# EAGLE library part GE865 (library telit-modules)
Telit GE865-QUAD
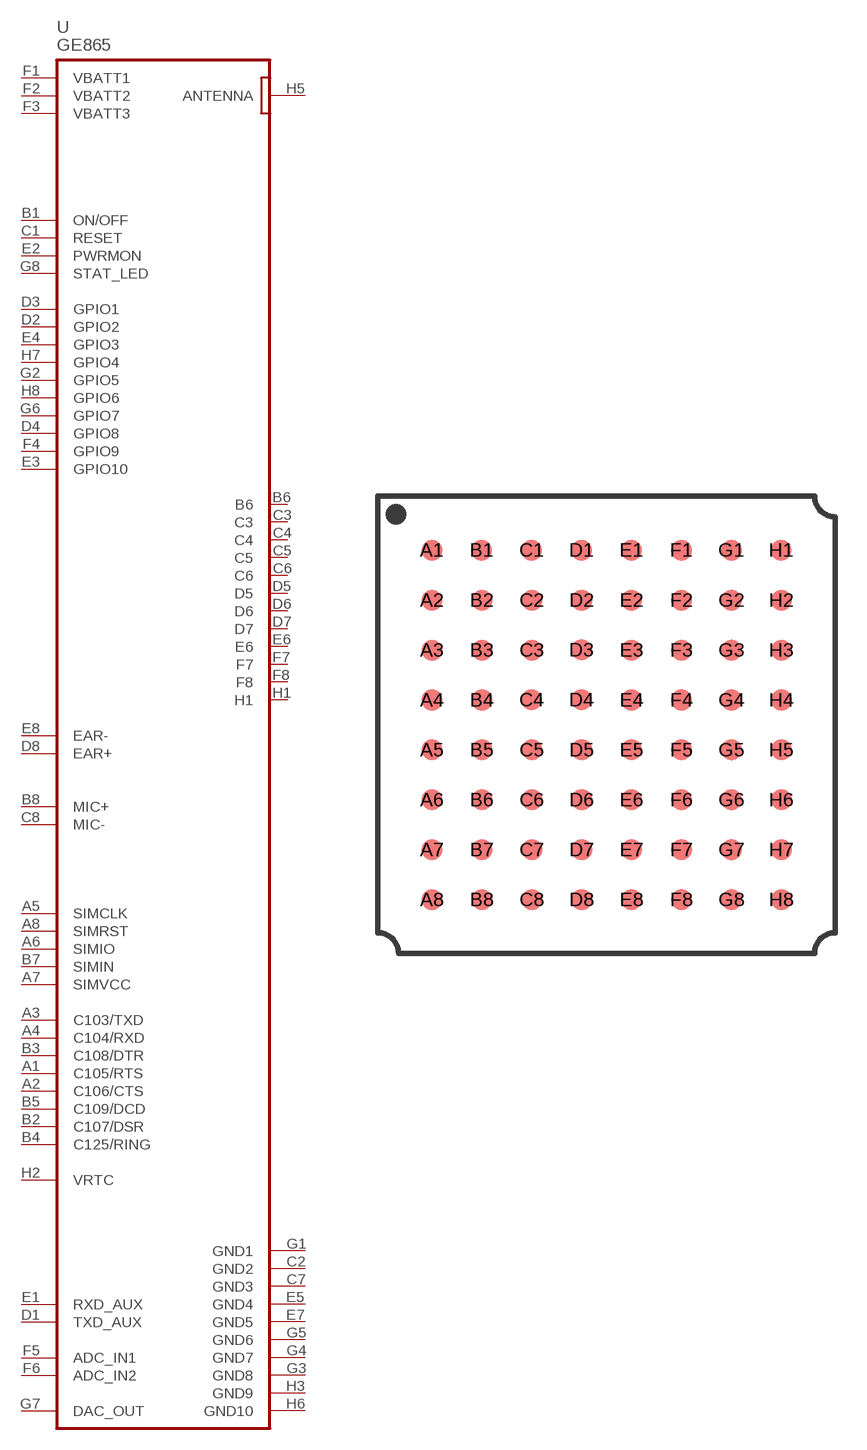
[diagram p6: symbol with the pads of GE865; footprint GE865]

Designator prefix -

## GE865  [GE865]
A1  C105/RTS  in
A2  C106/CTS  out
A3  C103/TXD  in
A4  C104/RXD  out
A5  SIMCLK  out
A6  SIMIO
A7  SIMVCC  pas
A8  SIMRST  out
B1  ON/OFF  in
B2  C107/DSR  out
B3  C108/DTR  in
B4  C125/RING  out
B5  C109/DCD  out
B6  B6  pas
B7  SIMIN  in
B8  MIC+  pas
C1  RESET  in
C2  GND2  pwr
C3  C3  pas
C4  C4  pas
C5  C5  pas
C6  C6  pas
C7  GND3  pwr
C8  MIC-  pas
D1  TXD_AUX  pas
D2  GPIO2
D3  GPIO1
D4  GPIO8
D5  D5  pas
D6  D6  pas
D7  D7  pas
D8  EAR+  pas
E1  RXD_AUX  pas
E2  PWRMON
E3  GPIO10
E4  GPIO3
E5  GND4  pwr
E6  E6  pas
E7  GND5  pwr
E8  EAR-  pas
F1  VBATT1  pwr
F2  VBATT2  pwr
F3  VBATT3  pwr
F4  GPIO9
F5  ADC_IN1  in
F6  ADC_IN2  in
F7  F7  pas
F8  F8  pas
G1  GND1  pwr
G2  GPIO5
G3  GND8  pwr
G4  GND7  pwr
G5  GND6  pwr
G6  GPIO7
G7  DAC_OUT  out
G8  STAT_LED  out
H1  H1  pas
H2  VRTC  pas
H3  GND9  pwr
H5  ANTENNA  in
H6  GND10  pwr
H7  GPIO4
H8  GPIO6

## Footprint GE865 (pad centres in mm)
smd 1 x 1: A1 -8.4,8.4; A2 -8.39,5.99; A3 -8.39,3.59; A4 -8.39,1.19; A5 -8.39,-1.21; A6 -8.39,-3.61; A7 -8.39,-6.01; A8 -8.39,-8.41; B1 -6,8.4; B2 -5.99,5.99; B3 -5.99,3.59; B4 -5.99,1.19; B5 -5.99,-1.21; B6 -5.99,-3.61; B7 -5.99,-6.01; B8 -5.99,-8.41; C1 -3.6,8.4; C2 -3.59,5.99; C3 -3.59,3.59; C4 -3.6,1.2; C5 -3.59,-1.21; C6 -3.59,-3.61; C7 -3.59,-6.01; C8 -3.59,-8.41; D1 -1.2,8.4; D2 -1.19,5.99; D3 -1.2,3.6; D4 -1.2,1.2; D5 -1.19,-1.21; D6 -1.19,-3.61; D7 -1.19,-6.01; D8 -1.19,-8.41; E1 1.2,8.4; E2 1.21,5.99; E3 1.21,3.59; E4 1.21,1.19; E5 1.21,-1.21; E6 1.21,-3.61; E7 1.21,-6.01; E8 1.21,-8.41; F1 3.6,8.4; F2 3.61,5.99; F3 3.61,3.59; F4 3.61,1.19; F5 3.61,-1.21; F6 3.61,-3.61; F7 3.61,-6.01; F8 3.61,-8.41; G1 6,8.4; G2 6.01,5.99; G3 6.01,3.59; G4 6.01,1.19; G5 6.01,-1.21; G6 6.01,-3.61; G7 6.01,-6.01; G8 6.01,-8.41; H1 8.4,8.4; H2 8.41,5.99; H3 8.41,3.59; H4 8.41,1.19; H5 8.41,-1.21; H6 8.41,-3.61; H7 8.41,-6.01; H8 8.41,-8.41